# EAGLE library part 2064VETP44 (library lattice)
LATTICE PROGRAMMABLE DEVICE Source: http://www.latticesemi.com/lit/docs/datasheets/cpld/2064v.pdf / 2064ve.pdf
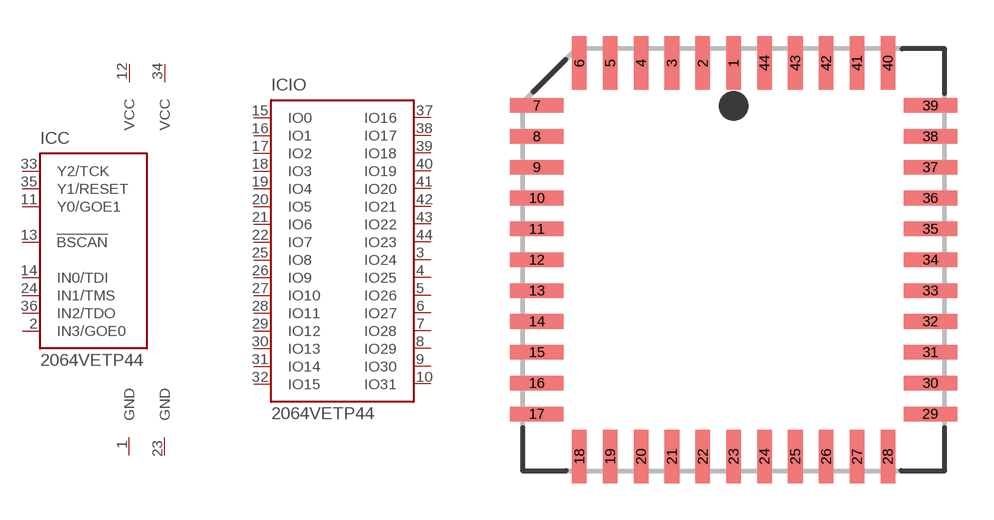
[diagram p1: symbol with the pads of PLCC44; footprint PLCC44]

Designator prefix IC; gates C=2064EVC IO=LSI2032 V1=VCC V2=VCC G1=GND G2=GND

## 2064VETP44 (OC_FARNELL: unknown; OC_NEWARK: unknown)  [PLCC44]
1  G1:GND  pwr
2  C:IN3/GOE0  in
3  IO:IO24
4  IO:IO25
5  IO:IO26
6  IO:IO27
7  IO:IO28
8  IO:IO29
9  IO:IO30
10  IO:IO31
11  C:Y0/GOE1  in
12  V1:VCC  pwr
13  C:!BSCAN  in
14  C:IN0/TDI  in
15  IO:IO0
16  IO:IO1
17  IO:IO2
18  IO:IO3
19  IO:IO4
20  IO:IO5
21  IO:IO6
22  IO:IO7
23  G2:GND  pwr
24  C:IN1/TMS  in
25  IO:IO8
26  IO:IO9
27  IO:IO10
28  IO:IO11
29  IO:IO12
30  IO:IO13
31  IO:IO14
32  IO:IO15
33  C:Y2/TCK  in
34  V2:VCC  pwr
35  C:Y1/RESET  in
36  C:IN2/TDO  in
37  IO:IO16
38  IO:IO17
39  IO:IO18
40  IO:IO19
41  IO:IO20
42  IO:IO21
43  IO:IO22
44  IO:IO23

## Footprint PLCC44 (pad centres in mm)
Plastic Leaded Chip Carrier
smd 0.6 x 2.2: 1 0,8.1; 2 -1.27,8.1; 3 -2.54,8.1; 4 -3.81,8.1; 5 -5.08,8.1; 6 -6.35,8.1; 18 -6.35,-8.1; 19 -5.08,-8.1; 20 -3.81,-8.1; 21 -2.54,-8.1; 22 -1.27,-8.1; 23 0,-8.1; 24 1.27,-8.1; 25 2.54,-8.1; 26 3.81,-8.1; 27 5.08,-8.1; 28 6.35,-8.1; 40 6.35,8.1; 41 5.08,8.1; 42 3.81,8.1; 43 2.54,8.1; 44 1.27,8.1
smd 2.2 x 0.6: 7 -8.1,6.35; 8 -8.1,5.08; 9 -8.1,3.81; 10 -8.1,2.54; 11 -8.1,1.27; 12 -8.1,0; 13 -8.1,-1.27; 14 -8.1,-2.54; 15 -8.1,-3.81; 16 -8.1,-5.08; 17 -8.1,-6.35; 29 8.1,-6.35; 30 8.1,-5.08; 31 8.1,-3.81; 32 8.1,-2.54; 33 8.1,-1.27; 34 8.1,0; 35 8.1,1.27; 36 8.1,2.54; 37 8.1,3.81; 38 8.1,5.08; 39 8.1,6.35